# EAGLE library part AUDIO-JACK_4CH_T/R1_SWITCH (library FlashPCB_Switches)
Audio-Jack_4CH_T/R1_Switch - 4 Channel Audio Jack With Tip and Ring 1 Switches Technical Specifications: Channels: 4 Switches: Tip and Ring1 Component Search: SJ2-35894D-SMT-TR <https://www.flashpcb.com/components> Datasheet: CUI DEVICES | SERIES: SJ2-3589X-SMT | DESCRIPTION: AUDIO JACK <https://www.cuidevices.com/product/resource/sj2-3589x-smt.pdf>
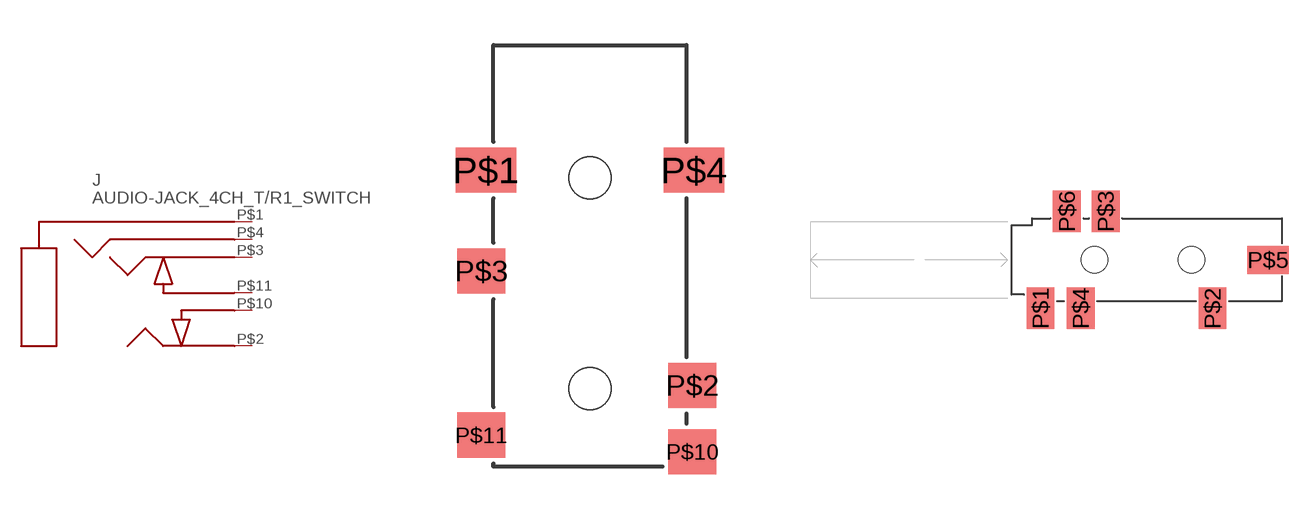
[diagram p0: symbol with the pads of AUDIO-JACK_SJ2-35894; footprints AUDIO-JACK_SJ2-35894, AUDIO-JACK_SJ-4351X_SMT]

Designator prefix J

## AUDIO-JACK_4CH_T/R1_SWITCHSJ2-35894D  [AUDIO-JACK_SJ2-35894]
P$1  SLEEVE
P$2  TIP
P$3  RING1
P$4  RING2
P$10  TIP_SWITCH
P$11  RING1_SWITCH

## AUDIO-JACK_4CH_T/R1_SWITCHSJ-43516  [AUDIO-JACK_SJ-4351X_SMT]
P$1  SLEEVE
P$2  TIP
P$3  RING1
P$4  RING2
P$5  TIP_SWITCH
P$6  RING1_SWITCH

## Footprint AUDIO-JACK_SJ2-35894 (pad centres in mm)
smd 2 x 1.5: P$1 -3.45,3.75; P$4 3.45,3.75
smd 1.6 x 1.5: P$2 3.4,-3.4; P$3 -3.6,0.4; P$10 3.4,-5.6; P$11 -3.6,-5.05
hole 1.4 at 0,3.5
hole 1.4 at 0,-3.5

## Footprint AUDIO-JACK_SJ-4351X_SMT (pad centres in mm)
smd 2 x 3: P$1 -7.4,-3.5; P$2 5,-3.5; P$3 -2.7,3.5; P$4 -4.5,-3.5; P$6 -5.5,3.5
smd 3 x 2: P$5 9,0
hole 1.9 at -3.5,0
hole 1.9 at 3.5,0